# EAGLE library part ADAFRUIT_NRF8001_BREAKOUT (library BLE_sensor_parts)
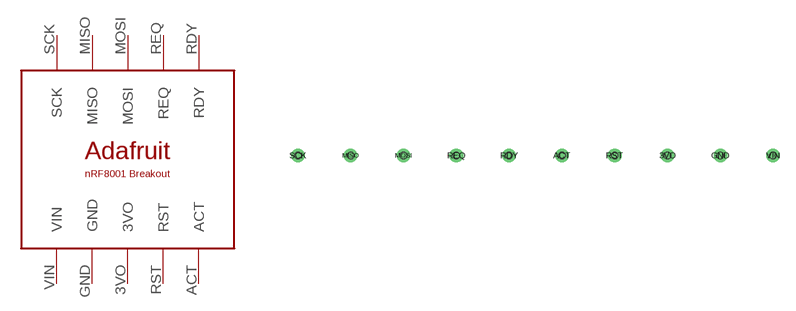
[diagram p0: symbol with the pads of ADAFRUIT_NRF8001_BREAKOUT_HEADERS; footprint ADAFRUIT_NRF8001_BREAKOUT_HEADERS]

Designator prefix -

## ADAFRUIT_NRF8001_BREAKOUT  [ADAFRUIT_NRF8001_BREAKOUT_HEADERS]
3VO  3VO  pwr
ACT  ACT
GND  GND  pwr
MISO  MISO
MOSI  MOSI
RDY  RDY
REQ  REQ
RST  RST  in
SCK  SCK
VIN  VIN  pwr

## Footprint ADAFRUIT_NRF8001_BREAKOUT_HEADERS (pad centres in mm)
drill 0.8: 3VO 35.56,0; ACT 25.4,0; GND 40.64,0; MISO 5.08,0; MOSI 10.16,0; RDY 20.32,0; REQ 15.24,0; RST 30.48,0; SCK 0,0; VIN 45.72,0
hole 0.6 at 0,0
hole 0.6 at 5.08,0
hole 0.6 at 10.16,0
hole 0.6 at 15.24,0
hole 0.6 at 20.32,0
hole 0.6 at 25.4,0
hole 0.6 at 30.48,0
hole 0.6 at 35.56,0
hole 0.6 at 40.64,0
hole 0.6 at 45.72,0